# Altium schematic symbol library 接插件元件库.SchLib: 63 symbols
Pins are listed as number, name and electrical type; pins without a type are passive.

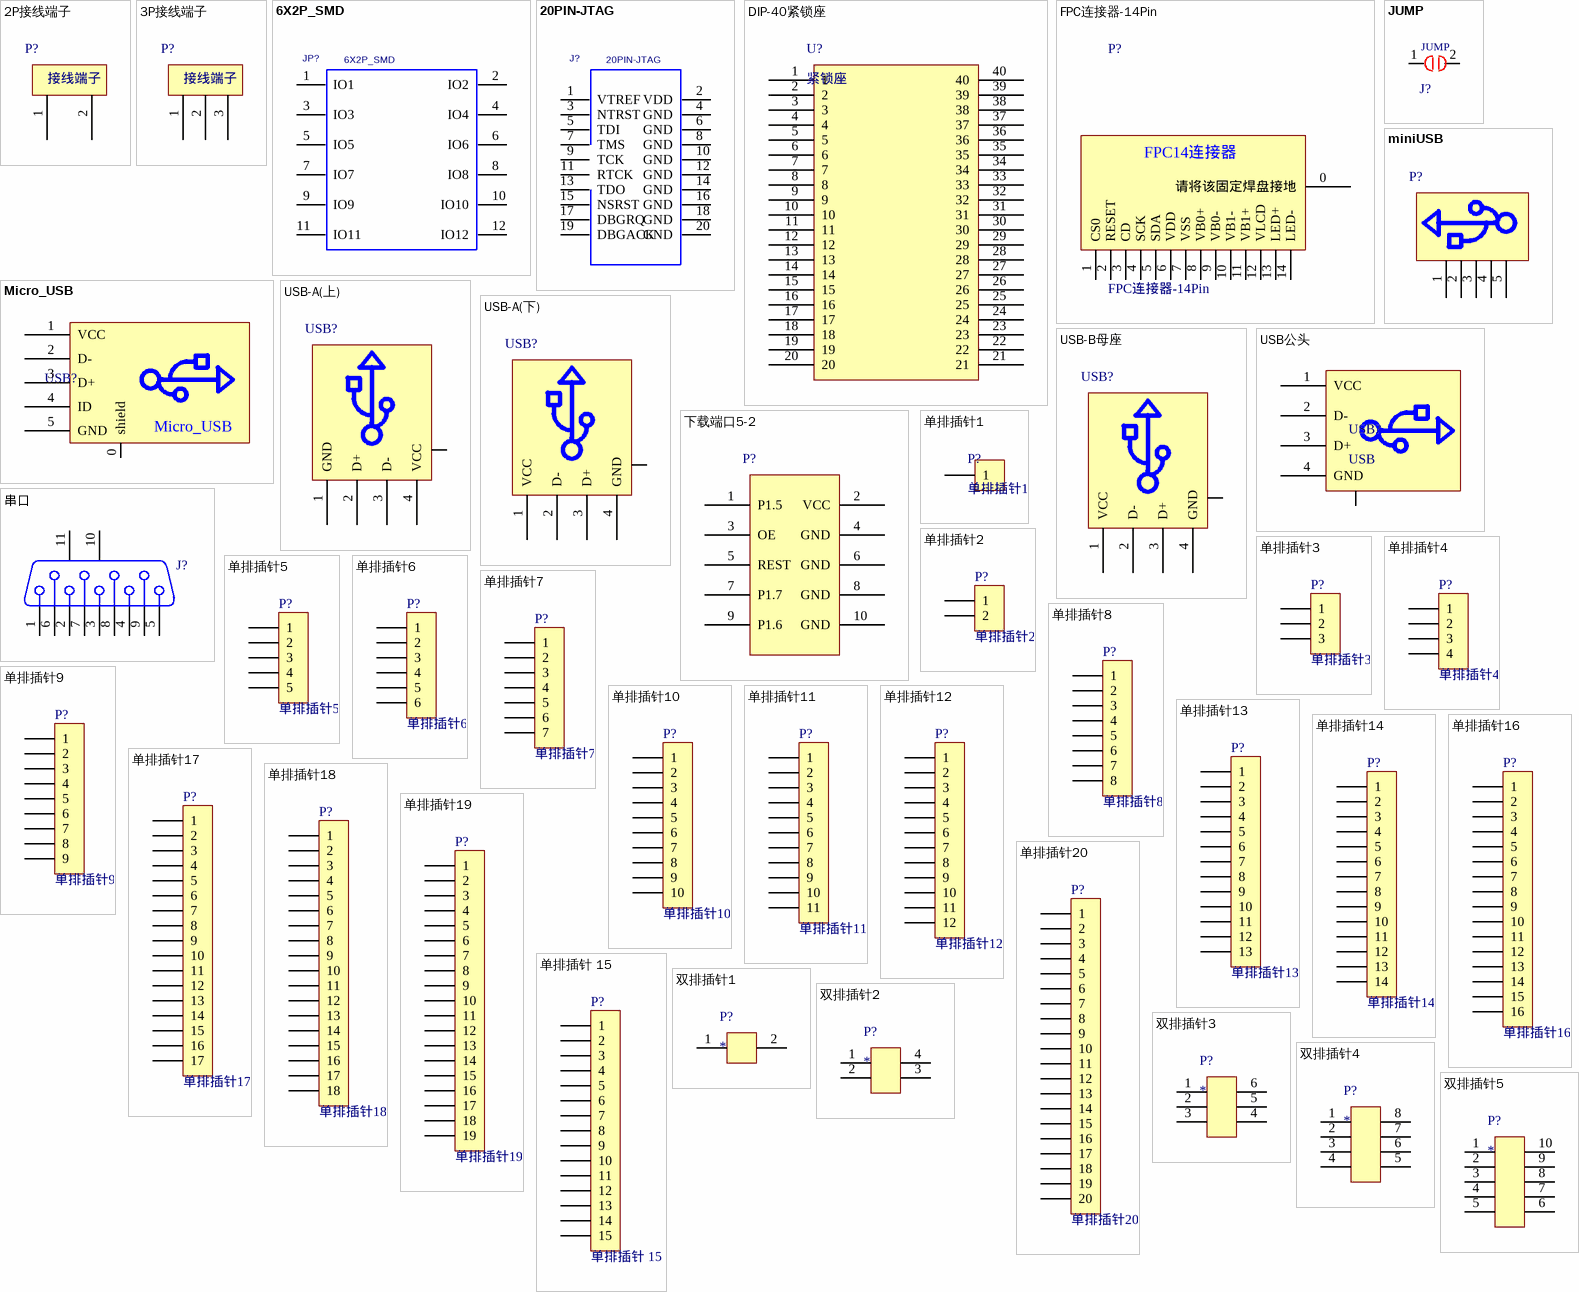
[diagram p0: symbols 2P接线端子 to 双排插针5]

## 2P接线端子
designator P?  (value not drawn)
footprint XH2.54-2
pins: 1, 2
text: 接线端子

## 3P接线端子
designator P?  (value not drawn)
footprint XH2.54-3
pins: 1, 2, 3
text: 接线端子

## 6X2P_SMD
designator JP?
I2C_6X2P; PCB DECAL: 12PIN_2.54_SMD; Manufacturer #1 PN: I2C_6X2P; Value: I2C_6X2P
footprint HDR2X6_CEN (Connector; Header; 6x2 Position)
footprint HDR2X6H (Connector; Header; 6x2 Position; Right Angle)
pins: 1 IO1, 2 IO2, 3 IO3, 4 IO4, 5 IO5, 6 IO6, 7 IO7, 8 IO8, 9 IO9, 10 IO10, 11 IO11, 12 IO12

## 20PIN-JTAG
designator J?
20pin JTAG; PCB DECAL: FC20H; Manufacturer #1: 20pin JTAG; Manufacturer #1 PN: 20pin JTAG; Value: 20pin JTAG
footprint DC3-20P
pins: 1 VTREF, 2 VDD, 3 NTRST, 4 GND, 5 TDI, 6 GND, 7 TMS, 8 GND, 9 TCK, 10 GND, 11 RTCK, 12 GND, 13 TDO, 14 GND, 15 NSRST, 16 GND, 17 DBGRQ, 18 GND, 19 DBGACK, 20 GND

## DIP-40紧锁座
designator U?, comment 紧锁座
footprint DIP40紧锁座
pins: 1, 2, 3, 4, 5, 6, 7, 8, 9, 10, 11, 12, 13, 14, 15, 16, 17, 18, 19, 20, 21, 22, 23, 24, 25, 26, 27, 28, 29, 30, 31, 32, 33, 34, 35, 36, 37, 38, 39, 40

## FPC连接器-14Pin
designator P?
footprint FPC14pin-0.5mm*2mm
pins: 0 请将该固定焊盘接地, 1 CS0, 2 RESET, 3 CD, 4 SCK, 5 SDA, 6 VDD, 7 VSS, 8 VB0+, 9 VB0-, 10 VB1-, 11 VB1+, 12 VLCD, 13 LED+, 14 LED-
text: FPC14连接器

## JUMP
designator J?, comment 焊锡跳线  (value not drawn)
footprint JUMP
pins: 1, 2

## Micro_USB
designator USB?, comment USB?  (value not drawn)
footprint Micro_USB
footprint USB-micro_B (micro型USB ，5.7*7.8*2.5mm)
pins: 0 shield, 1 VCC, 2 D-, 3 D+, 4 ID, 5 GND

## miniUSB
designator P?  (value not drawn)
footprint USB-MINI
pins: 1, 2, 3, 4, 5

## USB-A(上)
designator USB?  (value not drawn)
pins: 0, 1 GND, 2 D+, 3 D-, 4 VCC

## USB-A(下)
designator USB?  (value not drawn)
pins: 0, 1 VCC, 2 D-, 3 D+, 4 GND

## USB-B母座
designator USB?  (value not drawn)
footprint USB-B母座
pins: 0, 1 VCC, 2 D-, 3 D+, 4 GND

## USB公头
designator USB?, comment USB
footprint USB公头
pins: 0, 1 VCC, 2 D-, 3 D+, 4 GND

## 下载端口5-2
designator P?, comment ISP  (value not drawn)
footprint FKV10SN
pins: 1 P1.5, 2 VCC, 3 OE, 4 GND, 5 REST, 6 GND, 7 P1.7, 8 GND, 9 P1.6, 10 GND

## 串口
designator J?  (value not drawn)
PackageDocument: O; Positions: 9; Gender: Receptacle; Published: 15-Jun-2001; LatestRevisionDate: 17-Jul-2002; LatestRevisionNote: Re-released for DXP Platform.; DatasheetDocument: 1-Sep-1999; PackageReference: 788750; Publisher: Altium Limited; Orientation: Right Angle
footprint 串口公头
footprint 串口母座 (Connector; D Subminiature; 9 Position; Right Angle; Pitch 1.385 mm)
pins: 1, 2, 3, 4, 5, 6, 7, 8, 9, 10 MH1, 11 MH2

## 单排插针1
designator P?
footprint 单排弯插针1
footprint 单排插针1
footprint HDR2.54-LI-1P (排针，1脚)
pins: 1

## 单排插针2
designator P?
footprint 单排插针2 (Connector; Header; 2 Position)
footprint 单排弯插针2
pins: 1, 2

## 单排插针3
designator P?
footprint 单排插针3 (Connector; Header; 3 Position)
footprint 单排弯插针3
pins: 1, 2, 3

## 单排插针4
designator P?
footprint 单排插针4 (Connector; Header; 4 Position)
footprint 单排弯插针4
pins: 1, 2, 3, 4

## 单排插针5
designator P?
footprint 单排插针5 (Connector; Header; 5 Position)
footprint 单排弯插针5
pins: 1, 2, 3, 4, 5

## 单排插针6
designator P?
footprint 单排插针6 (Connector; Header; 6 Position)
footprint 单排弯插针6
pins: 1, 2, 3, 4, 5, 6

## 单排插针7
designator P?
footprint 单排插针7 (Connector; Header; 7 Position)
footprint 单排弯插针7
pins: 1, 2, 3, 4, 5, 6, 7

## 单排插针8
designator P?
footprint 单排插针8 (Connector; Header; 8 Position)
footprint 单排弯插针8
pins: 1, 2, 3, 4, 5, 6, 7, 8

## 单排插针9
designator P?
footprint 单排插针9 (Connector; Header; 9 Position)
pins: 1, 2, 3, 4, 5, 6, 7, 8, 9

## 单排插针10
designator P?
footprint 单排插针10 (Connector; Header; 10 Position)
pins: 1, 2, 3, 4, 5, 6, 7, 8, 9, 10

## 单排插针11
designator P?
footprint 单排插针11 (Connector; Header; 11 Position)
pins: 1, 2, 3, 4, 5, 6, 7, 8, 9, 10, 11

## 单排插针12
designator P?
footprint 单排插针12 (Connector; Header; 12 Position)
pins: 1, 2, 3, 4, 5, 6, 7, 8, 9, 10, 11, 12

## 单排插针13
designator P?
footprint 单排插针13 (Connector; Header; 13 Position)
pins: 1, 2, 3, 4, 5, 6, 7, 8, 9, 10, 11, 12, 13

## 单排插针14
designator P?
footprint 单排插针14 (Connector; Header; 14 Position)
pins: 1, 2, 3, 4, 5, 6, 7, 8, 9, 10, 11, 12, 13, 14

## 单排插针16
designator P?
footprint 单排插针16 (Connector; Header; 16 Position)
pins: 1, 2, 3, 4, 5, 6, 7, 8, 9, 10, 11, 12, 13, 14, 15, 16

## 单排插针17
designator P?
footprint 单排插针17 (Connector; Header; 17 Position)
pins: 1, 2, 3, 4, 5, 6, 7, 8, 9, 10, 11, 12, 13, 14, 15, 16, 17

## 单排插针18
designator P?
footprint 单排插针18 (Connector; Header; 18 Position)
pins: 1, 2, 3, 4, 5, 6, 7, 8, 9, 10, 11, 12, 13, 14, 15, 16, 17, 18

## 单排插针19
designator P?
footprint 单排插针19 (Connector; Header; 19 Position)
pins: 1, 2, 3, 4, 5, 6, 7, 8, 9, 10, 11, 12, 13, 14, 15, 16, 17, 18, 19

## 单排插针20
designator P?
footprint 单排插针20 (Connector; Header; 20 Position)
pins: 1, 2, 3, 4, 5, 6, 7, 8, 9, 10, 11, 12, 13, 14, 15, 16, 17, 18, 19, 20

## 单排插针 15
designator P?
footprint 单排插针15 (Connector; Header; 15 Position)
pins: 1, 2, 3, 4, 5, 6, 7, 8, 9, 10, 11, 12, 13, 14, 15

## 双排插针1
designator P?
footprint 双排插针1
pins: 1 0, 2 1

## 双排插针2
designator P?
footprint 双排插针2
pins: 1, 2, 3, 4

## 双排插针3
designator P?
footprint 双排插针3
pins: 1 0, 2 1, 3 2, 4 3, 5 4, 6 5

## 双排插针4
designator P?
footprint 双排插针4
pins: 1, 2, 3, 4, 5, 6, 7, 8

## 双排插针5
designator P?
footprint 双排插针5
pins: 1, 2, 3, 4, 5, 6, 7, 8, 9, 10

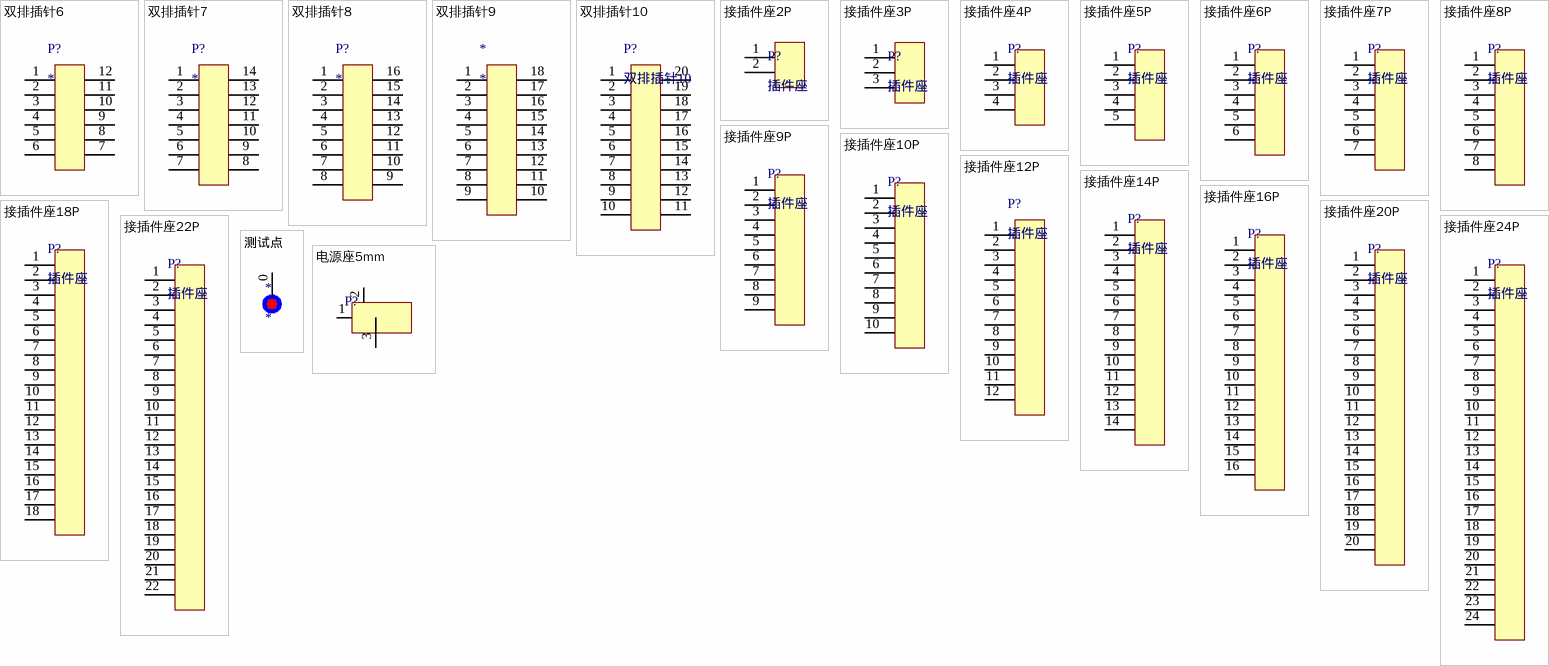
[diagram p1: symbols 双排插针6 to 电源座5mm]

## 双排插针6
designator P?
footprint 双排插针6
pins: 1, 2, 3, 4, 5, 6, 7, 8, 9, 10, 11, 12

## 双排插针7
designator P?
footprint 双排插针7
pins: 1, 2, 3, 4, 5, 6, 7, 8, 9, 10, 11, 12, 13, 14

## 双排插针8
designator P?
footprint 双排插针8
pins: 1, 2, 3, 4, 5, 6, 7, 8, 9, 10, 11, 12, 13, 14, 15, 16

## 双排插针9
designator *
footprint 双排插针9
pins: 1, 2, 3, 4, 5, 6, 7, 8, 9, 10, 11, 12, 13, 14, 15, 16, 17, 18

## 双排插针10
designator P?
footprint 双排插针10
pins: 1, 2, 3, 4, 5, 6, 7, 8, 9, 10, 11, 12, 13, 14, 15, 16, 17, 18, 19, 20

## 接插件座2P
designator P?, comment 插件座
footprint B2B-XH-A
footprint HDR2
pins: 1, 2

## 接插件座3P
designator P?, comment 插件座
footprint B3B-XH-A
footprint HDR3 (5.08mm端子)
pins: 1, 2, 3

## 接插件座4P
designator P?, comment 插件座
footprint B4B-XH-A
footprint HDR4
pins: 1, 2, 3, 4

## 接插件座5P
designator P?, comment 插件座
footprint B5B-XH-A
footprint HDR5
pins: 1, 2, 3, 4, 5

## 接插件座6P
designator P?, comment 插件座
footprint B6B-XH-A
footprint HDR6
pins: 1, 2, 3, 4, 5, 6

## 接插件座7P
designator P?, comment 插件座
footprint B7B-XH-A
footprint HDR7
pins: 1, 2, 3, 4, 5, 6, 7

## 接插件座8P
designator P?, comment 插件座
footprint B8B-XH-A
footprint HDR8
pins: 1, 2, 3, 4, 5, 6, 7, 8

## 接插件座9P
designator P?, comment 插件座
footprint HDR9
pins: 1, 2, 3, 4, 5, 6, 7, 8, 9

## 接插件座10P
designator P?, comment 插件座
footprint HDR10
pins: 1, 2, 3, 4, 5, 6, 7, 8, 9, 10

## 接插件座12P
designator P?, comment 插件座
footprint HDR12
pins: 1, 2, 3, 4, 5, 6, 7, 8, 9, 10, 11, 12

## 接插件座14P
designator P?, comment 插件座
footprint HDR14
pins: 1, 2, 3, 4, 5, 6, 7, 8, 9, 10, 11, 12, 13, 14

## 接插件座16P
designator P?, comment 插件座
footprint HDR16
pins: 1, 2, 3, 4, 5, 6, 7, 8, 9, 10, 11, 12, 13, 14, 15, 16

## 接插件座18P
designator P?, comment 插件座
footprint HDR18
pins: 1, 2, 3, 4, 5, 6, 7, 8, 9, 10, 11, 12, 13, 14, 15, 16, 17, 18

## 接插件座20P
designator P?, comment 插件座
footprint HDR20
pins: 1, 2, 3, 4, 5, 6, 7, 8, 9, 10, 11, 12, 13, 14, 15, 16, 17, 18, 19, 20

## 接插件座22P
designator P?, comment 插件座
footprint HDR22
pins: 1, 2, 3, 4, 5, 6, 7, 8, 9, 10, 11, 12, 13, 14, 15, 16, 17, 18, 19, 20, 21, 22

## 接插件座24P
designator P?, comment 插件座
footprint HDR24
pins: 1, 2, 3, 4, 5, 6, 7, 8, 9, 10, 11, 12, 13, 14, 15, 16, 17, 18, 19, 20, 21, 22, 23, 24

## 测试点
designator *
footprint test_point
pins: 0 测试

## 电源座5mm
designator P?  (value not drawn)
footprint 电源座5mm
pins: 1, 2, 3